# EAGLE library part LT1763CS8-5 (library Lysenko_Eagle_Lib)
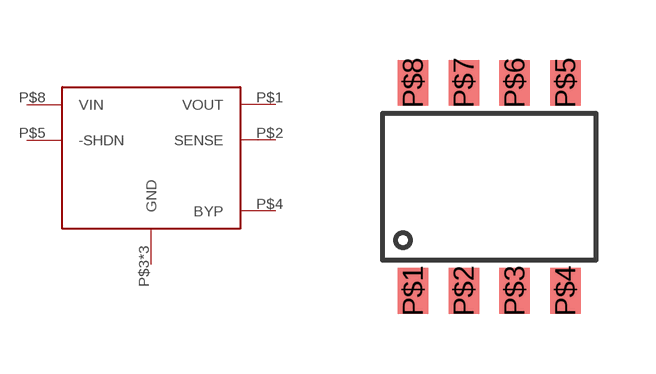
[diagram p25: symbol with the pads of SOIC-8; footprint SOIC-8]

Designator prefix -

## LT1763CS8-5  [SOIC-8]
P$1  VOUT
P$2  SENSE
P$3  GND
P$4  BYP
P$5  -SHDN
P$6  GND
P$7  GND
P$8  VIN

## Footprint SOIC-8 (pad centres in mm)
smd 0.762 x 1.143: P$1 0,0; P$2 1.27,0; P$3 2.54,0; P$4 3.81,0; P$5 3.81,5.207; P$6 2.54,5.207; P$7 1.27,5.207; P$8 0,5.207